# Altium footprint library ld_pulser.PcbLib: 47 footprints (part 2 of 3)
Each footprint in its own frame and in the unit in brackets; x right, y up, seen from the top. Pads: shape width x height; smd on the part's side, far side on the other; paste and mask are expansions set on the pad; w line width, h text height; cw(c..) or ccw(c..) is an arc to the next point about the centre after c.
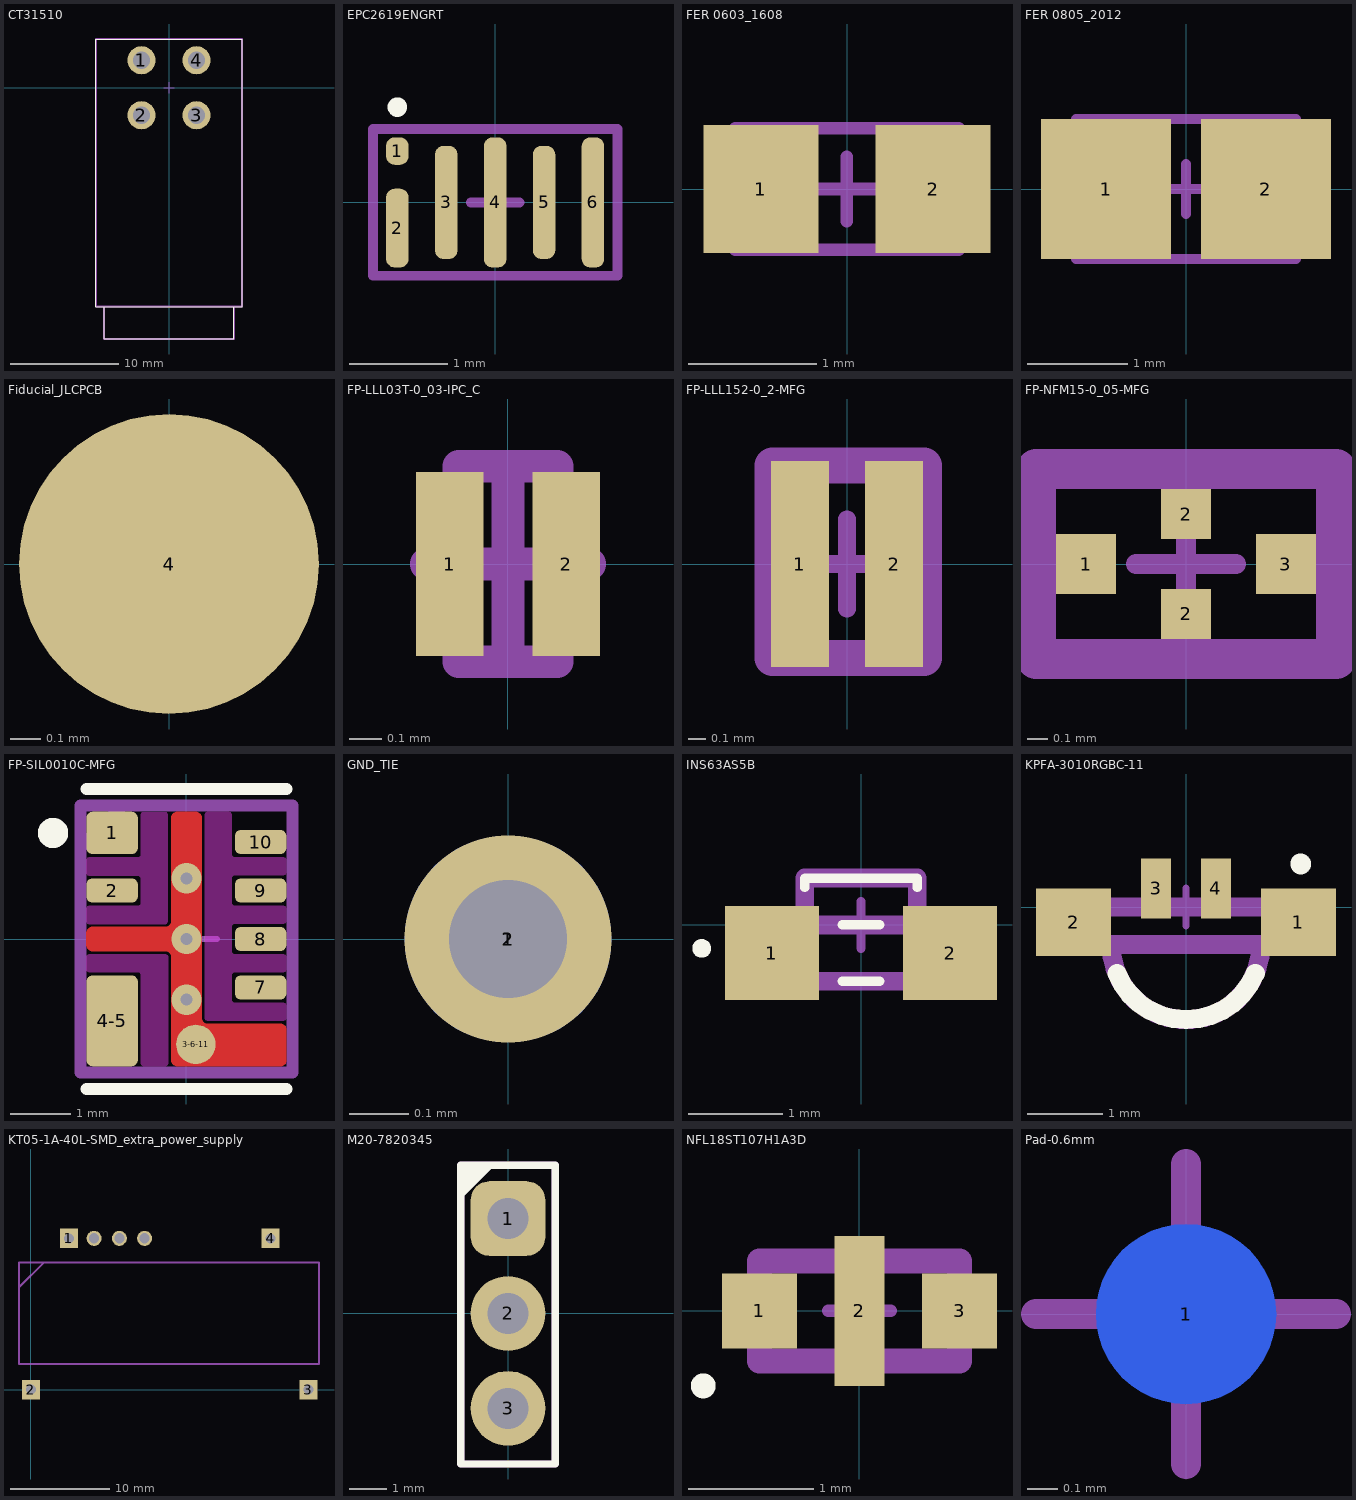
[diagram p1: the footprints below, top view; thin cyan lines are the x and y axes]

## CT31510 [mm]
pads (4):
  round 2.6 hole 1.6: 1(-2.54,2.54) 2(-2.54,-2.54) 3(2.54,-2.54) 4(2.54,2.54)
Top Overlay:
  lines w0.1: -6,-20.2 -6,-23.2 6,-23.2 6,-20.2 ; -6.75,-20.2 -6.75,4.5 6.75,4.5 6.75,-20.2 -6.75,-20.2
Top Assembly:
  lines w0.2: -6,-20.2 -6,-23.2 6,-23.2 6,-20.2 ; -6.75,-20.2 -6.75,4.5 6.75,4.5 6.75,-20.2 -6.75,-20.2
Top Component Center (Mech15):
  lines w0.1: -0.5,0 0.5,0 ; 0,-0.5 0,0.5
3D body "CT3151-0.stp": height 19.24, standoff -3.15, extent -6.6,-24.65 6.9,3.05

## EPC2619ENGRT [mm]
pads (6):
  rrect75% 0.23x0.28 smd mask-2539.97: 1(-1,0.525)
  rrect75% 0.23x0.805 smd paste-2539.97 mask-2539.97: 2(-1,-0.262)
  rrect75% 0.23x1.155 smd paste-2539.97 mask-2539.97: 3(-0.5,0) 5(0.5,0)
  rrect75% 0.23x1.33 smd paste-2539.97 mask-2539.97: 4(0,0) 6(1,0)
Top Overlay:
  lines w0.1: -1,0.925 cw(c-1,0.975) -1,1.025 cw(c-1,0.975) -1,0.925
Top Paste:
  region: 0.895,-0.613 0.895,-0.623 0.903,-0.642 0.918,-0.657 0.937,-0.665 0.947,-0.665 1.053,-0.665 1.063,-0.665 1.082,-0.657 1.097,-0.642 1.105,-0.623 1.105,-0.613 1.105,0.613 1.105,0.623 1.097,0.642 1.082,0.657 1.063,0.665 1.053,0.665 0.947,0.665 0.937,0.665 0.918,0.657 0.903,0.642 0.895,0.623 0.895,0.613
  region: 0.395,-0.525 0.395,-0.535 0.403,-0.555 0.418,-0.57 0.437,-0.577 0.447,-0.577 0.553,-0.577 0.563,-0.577 0.582,-0.57 0.597,-0.555 0.605,-0.535 0.605,-0.525 0.605,0.525 0.605,0.535 0.597,0.555 0.582,0.57 0.563,0.577 0.553,0.577 0.447,0.577 0.437,0.577 0.418,0.57 0.403,0.555 0.395,0.535 0.395,0.525
  region: -0.105,-0.613 -0.105,-0.623 -0.097,-0.642 -0.082,-0.657 -0.063,-0.665 -0.053,-0.665 0.052,-0.665 0.063,-0.665 0.082,-0.657 0.097,-0.642 0.105,-0.623 0.105,-0.613 0.105,0.613 0.105,0.623 0.097,0.642 0.082,0.657 0.063,0.665 0.053,0.665 -0.053,0.665 -0.063,0.665 -0.082,0.657 -0.097,0.642 -0.105,0.623 -0.105,0.613
  region: -0.553,-0.577 -0.563,-0.577 -0.582,-0.57 -0.597,-0.555 -0.605,-0.535 -0.605,-0.525 -0.605,0.525 -0.605,0.535 -0.597,0.555 -0.582,0.57 -0.563,0.577 -0.553,0.577 -0.447,0.577 -0.437,0.577 -0.418,0.57 -0.403,0.555 -0.395,0.535 -0.395,0.525 -0.395,-0.525 -0.395,-0.535 -0.403,-0.555 -0.418,-0.57 -0.437,-0.577 -0.447,-0.577
  region: -1.053,-0.665 -1.063,-0.665 -1.082,-0.657 -1.097,-0.642 -1.105,-0.622 -1.105,-0.612 -1.105,0.088 -1.105,0.098 -1.097,0.118 -1.082,0.133 -1.063,0.141 -1.053,0.141 -0.947,0.141 -0.937,0.141 -0.918,0.133 -0.903,0.118 -0.895,0.098 -0.895,0.088 -0.895,-0.612 -0.895,-0.622 -0.903,-0.642 -0.918,-0.657 -0.937,-0.665 -0.947,-0.665
Top Solder:
  drawing of 6 lines, arcs and shapes, not listed
Top Assembly:
  lines w0.1: -1.25,-0.75 -1.25,0.75 1.25,0.75 1.25,-0.75 -1.25,-0.75
Top Component Center (Mech15):
  lines w0.1: -0.25,0 0.25,0 ; 0,-0.25 0,0.25
3D body "EPC2619ENGRT.stp": height 0.74, standoff 0.1, extent -1.25,-0.75 1.25,0.75

## FER 0603_1608 [mm] "Chip Ferrite, 2-Leads, Body 1.60x0.80mm, IPC Medium Density"
height 0.89
pads (2):
  rect 0.9x1 smd: 1(-0.675,0) 2(0.675,0)
Top Assembly:
  lines w0.1: -0.875,-0.475 -0.875,0.475 0.875,0.475 0.875,-0.475 -0.875,-0.475
Top Component Center (Mech15):
  lines w0.1: -0.251,0 0.249,0 ; -0.001,-0.25 -0.001,0.25
3D body "FER 0603.STEP": height 0.82, standoff 0, extent -0.8,-0.412 0.8,0.412

## FER 0805_2012 [mm] "Chip Ferrite, 2-Leads, Body 2.00x1.20mm, IPC Medium Density"
height 1.15
pads (2):
  rect 1.3x1.4 smd: 1(-0.8,0) 2(0.8,0)
Top Assembly:
  lines w0.1: -1.1,-0.7 -1.1,0.7 1.1,0.7 1.1,-0.7 -1.1,-0.7
Top Component Center (Mech15):
  lines w0.1: -0.25,0 0.25,0 ; 0,-0.25 0,0.25
3D body "FER 0805.STEP": height 1.26, standoff -0.02, extent -1,-0.637 1,0.637

## Fiducial_JLCPCB [mm]
pads (1):
  round 1 smd paste-2539.97 mask+0.5: 4(0,0)
Board:
  text "Fiducial" at -2.059,0.735 h0.8

## FP-LLL03T-0_03-IPC_C [mm]
pads (2):
  rect 0.206x0.563 smd paste+0 mask+0: 1(-0.178,0) 2(0.178,0)
Top Assembly:
  lines w0.1: -0.15,-0.3 0.15,-0.3 0.15,0.3 -0.15,0.3 -0.15,-0.3
Top Component Center (Mech15):
  lines w0.1: -0.25,0 0.25,0 ; 0,-0.25 0,0.25
3D body "Cap_Murata_LLL03TR61E223KE01L_eec.STEP": height 0.25, standoff 0, extent -0.381,-0.415 0.381,0.415

## FP-LLL152-0_2-MFG [mm]
pads (2):
  rect 0.325x1.15 smd paste+0 mask+0: 1(-0.262,0) 2(0.262,0)
Top Assembly:
  lines w0.2: -0.416,-0.525 -0.416,0.55 0.431,0.55 0.431,-0.525 -0.416,-0.525
Top Component Center (Mech15):
  lines w0.1: -0.25,0 0.25,0 ; 0,-0.25 0,0.25
3D body "Cap_Murata_LLL152D70J105ME01D_eec.STEP": height 0.25, standoff 0, extent -0.525,-0.7 0.525,0.7

## FP-NFM15-0_05-MFG [mm]
pads (4):
  rect 0.3x0.3 smd paste+0 mask+0: 1(-0.5,0) 3(0.5,0)
  rect 0.25x0.25 smd paste+0 mask+0: 2(0,-0.25) 2(0,0.25)
Top Assembly:
  lines w0.2: -0.75,-0.475 0.75,-0.475 ; -0.75,-0.475 -0.75,0.475 ; -0.75,-0.475 -0.75,0.475 ; -0.75,-0.475 0.75,-0.475 ; -0.75,0.475 0.75,0.475 ; -0.75,0.475 0.75,0.475 ; 0.75,-0.475 0.75,0.475 ; 0.75,-0.475 0.75,0.475
Top Component Center (Mech15):
  lines w0.1: -0.25,0 0.25,0 ; 0,-0.25 0,0.25
3D body "Cap_Murata_NFM15PC105R0G3D_eec.STEP": height 0.25, standoff 0, extent -0.75,-0.475 0.75,0.475

## FP-SIL0010C-MFG [mm]
pads (8):
  rrect29% 0.85x0.7 smd paste-1000 mask-1000: 1(-1.225,1.75)
  rrect50% 0.85x0.4 smd paste-1000 mask-1000: 2(-1.225,0.8) 7(1.225,-0.8) 8(1.225,0) 9(1.225,0.8) 10(1.225,1.6)
  round 0.65 smd paste-1000 mask-1000: 3-6-11(0.155,-1.739)
  rrect24% 0.85x1.5 smd paste-1000 mask-1000: 4-5(-1.225,-1.35)
via 0,-1 diameter 0.5 hole 0.2
via 0,0 diameter 0.5 hole 0.2
via 0,1 diameter 0.5 hole 0.2
Top Layer:
  region: -0.15,2.1 -0.17,2.1 -0.207,2.085 -0.235,2.057 -0.25,2.02 -0.25,2 -0.25,0.3 -0.252,0.28 -0.267,0.244 -0.294,0.217 -0.33,0.202 -0.35,0.2 -1.55,0.2 -1.57,0.2 -1.607,0.185 -1.635,0.157 -1.65,0.12 -1.65,0.1 -1.65,-0.1 -1.65,-0.12 -1.635,-0.157 -1.607,-0.185 -1.57,-0.2 -1.55,-0.2 -0.35,-0.2 -0.33,-0.202 -0.294,-0.217 -0.267,-0.244 -0.252,-0.28 -0.25,-0.3 -0.25,-2 -0.25,-2.02 -0.235,-2.057 -0.207,-2.085 -0.17,-2.1 -0.15,-2.1 1.55,-2.1 1.57,-2.1 1.607,-2.085 1.635,-2.057 1.65,-2.02 1.65,-2 1.65,-1.5 1.65,-1.48 1.635,-1.443 1.607,-1.415 1.57,-1.4 1.55,-1.4 0.35,-1.4 0.33,-1.398 0.294,-1.383 0.267,-1.356 0.252,-1.32 0.25,-1.3 0.25,2 0.25,2.02 0.235,2.057 0.207,2.085 0.17,2.1 0.15,2.1
Top Overlay:
  circle w0.25: c-2.2,1.75 r0.125
  lines w0.2: -1.65,-2.475 1.65,-2.475 ; -1.65,2.475 1.65,2.475
Top Paste:
  drawing of 14 lines, arcs and shapes, not listed
Top Solder:
  drawing of 11 lines, arcs and shapes, not listed
Keep-Out Layer:
  drawing of 3 lines, arcs and shapes, not listed
Top Assembly:
  lines w0.2: -1.75,1.5 -1.05,2.2 ; -1.75,-2.2 -1.75,2.2 1.75,2.2 1.75,-2.2 -1.75,-2.2
Top Component Center (Mech15):
  lines w0.1: -0.5,0 0.5,0 ; 0,-0.5 0,0.5
3D body "IC_Texas_Instruments_TPSM265R1V3SILR_eec.STEP": height 0.25, standoff 0, extent -1.75,-2.2 1.75,2.2

## GND_TIE [mm]
pads (6):
  round 0.35 on Mid1: 1(0,0)
  round 0.35 on Mid4: 1(0,0)
  round 0.35 smd: 1(0,0)
  round 0.35 smd far side: 1(0,0)
  round 0.35 on Mid2: 2(0,0)
  round 0.35 on Mid3: 2(0,0)
via 0,0 diameter 0.35 hole 0.2

## INS63AS5B [mm]
pads (2):
  rect 1x1 smd: 1(-0.95,-0.3) 2(0.95,-0.3)
Top Overlay:
  lines w0.1: -0.6,0.4 -0.6,0.5 0.6,0.5 0.6,0.4 ; -0.2,-0.6 0.2,-0.6 ; -0.2,0 0.2,0 ; -1.7,-0.3 ccw(c-1.7,-0.25) -1.7,-0.2 ccw(c-1.7,-0.25) -1.7,-0.3
Top Assembly:
  lines w0.2: -0.6,0 -0.6,0.5 0.6,0.5 0.6,0 ; -0.95,-0.6 0.95,-0.6 0.95,0 -0.95,0 -0.95,-0.6
Top Component Center (Mech15):
  lines w0.1: -0.25,0 0.25,0 ; 0,-0.25 0,0.25

## KPFA-3010RGBC-11 [mm]
pads (4):
  rect 1x0.9 smd: 1(1.5,-0.2) 2(-1.5,-0.2)
  rect 0.4x0.8 smd: 3(-0.4,0.25) 4(0.4,0.25)
Top Overlay:
  circle w0.254: c1.53,0.575 r0.012
  lines w0.254: -0.923,-0.886 ccw(c0,-0.502) 0.923,-0.884
Top Assembly:
  lines w0.254: -1,-0.5 ccw(c0,-0.5) 1,-0.5 ; -1.732,-0.5 1.648,-0.5 1.648,0 -1.732,0 -1.732,-0.5
Top Component Center (Mech15):
  lines w0.1: -0.25,0 0.25,0 ; 0,-0.25 0,0.25
3D body "APFA3010SEKJ3ZGKQBKC.stp": height 1.2, standoff 0, extent -1.5,-1.56 1.5,-0.06

## KT05-1A-40L-SMD_extra_power_supply [mm]
pads (7):
  rect 1.8x2 hole 1: 1(3.82,15.24) 2(0,0) 3(27.94,0) 4(24.12,15.24)
  round 1.52 hole 1.02: E_GND(6.36,15.24) E_VDD(8.9,15.24) E_VH(11.44,15.24)
Top Assembly:
  lines w0.2: -1.2,10.3 1.3,12.8 ; -1.2,2.6 29,2.6 29,12.8 -1.2,12.8 -1.2,2.6
3D body: height 8.7, standoff 0, extent -1.2,2.6 29,12.8

## M20-7820345 [mm] "2.54mm DIL PC TAIL PIN HEADER ASSEMBLY"
height 5
pads (3):
  rrect50% 2x2 hole 1.1: 1(0,2.54)
  round 2 hole 1.1: 2(0,0) 3(0,-2.54)
Top Overlay:
  region: -1.23,4 -1.23,3.1 -0.33,4
  lines w0.2: -1.27,-4.03 -1.27,3.97 1.27,3.97 1.27,-4.03 -1.27,-4.03
Top Assembly:
  lines w0.2: -1.25,3.25 -1.07,3.43 -0.71,3.79 -0.53,3.97 ; -1.27,-4.03 -1.27,3.97 1.27,3.97 1.27,-4.03 -1.27,-4.03
Top Component Center (Mech15):
  lines w0.2: -0.5,0 0.5,0 ; 0,-0.5 0,0.5
3D body "M20-7820342.step": height 8.5, standoff -3, extent -1.25,-4.01 1.25,4.01

## NFL18ST107H1A3D [mm]
pads (3):
  rect 0.6x0.6 smd: 1(-0.8,0) 3(0.8,0)
  rect 0.4x1.2 smd: 2(0,0)
Top Overlay:
  lines w0.1: -1.3,-0.6 cw(c-1.25,-0.6) -1.2,-0.6 cw(c-1.25,-0.6) -1.3,-0.6
Top Assembly:
  lines w0.2: -0.8,-0.4 0.8,-0.4 0.8,0.4 -0.8,0.4 -0.8,-0.4
Top Component Center (Mech15):
  lines w0.1: -0.25,0 0.25,0 ; 0,-0.25 0,0.25
3D body "NFL18ZT506H1A3D.stp": height 0.6, standoff 0, extent -0.8,-0.42 0.8,0.38

## Pad-0.6mm [mm] "SMT Test Pad"
pads (1):
  round 0.6 smd far side paste-5: 1(0,0)
Top Component Center (Mech15):
  lines w0.1: -0.5,0 0.5,0 ; 0,-0.5 0,0.5